# EAGLE library part ICL763* (library maxim)
Triple Operational Amplifiers Source: http://datasheets.maxim-ic.com/en/ds/ICL7612-ICL764X.pdf
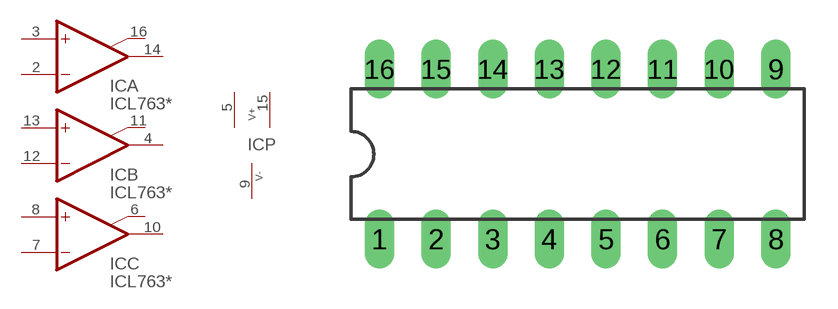
[diagram p79: symbol with the pads of DIL16; footprint DIL16]

Designator prefix IC; gates P=PWR2+- A=ICL763XX B=ICL763XX C=ICL763XX

## ICL7631PD (OC_FARNELL: unknown; OC_NEWARK: unknown), ICL7632PD (OC_FARNELL: unknown; OC_NEWARK: unknown)  [DIL16]
2  A:-IN  in
3  A:+IN  in
4  B:OUT  out
5  P:V+  pwr
6  C:IOSET  pas
7  C:-IN  in
8  C:+IN  in
9  P:V-  pwr
10  C:OUT  out
11  B:IOSET  pas
12  B:-IN  in
13  B:+IN  in
14  A:OUT  out
15  P:V+  pwr
16  A:IOSET  pas

## Footprint DIL16 (pad centres in mm)
Dual In Line Package
drill 0.813 long: 1 -8.89,-3.81; 2 -6.35,-3.81; 3 -3.81,-3.81; 4 -1.27,-3.81; 5 1.27,-3.81; 6 3.81,-3.81; 7 6.35,-3.81; 8 8.89,-3.81; 9 8.89,3.81; 10 6.35,3.81; 11 3.81,3.81; 12 1.27,3.81; 13 -1.27,3.81; 14 -3.81,3.81; 15 -6.35,3.81; 16 -8.89,3.81